# Altium footprint library SOIC-14(4.0X8.7).PcbLib: 1 footprints
Each footprint in its own frame and in the unit in brackets; x right, y up, seen from the top. Pads: shape width x height; smd on the part's side, far side on the other; paste and mask are expansions set on the pad; w line width, h text height; cw(c..) or ccw(c..) is an arc to the next point about the centre after c.
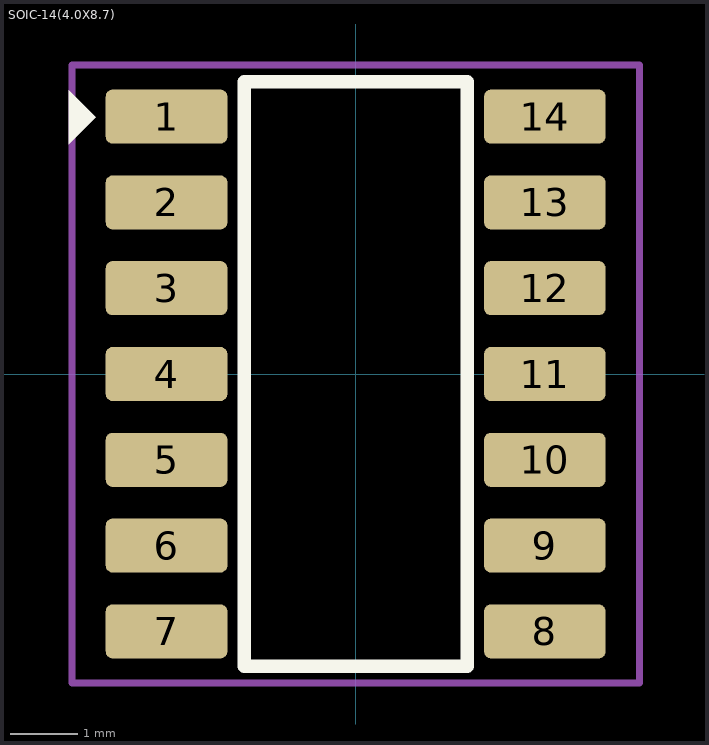
[diagram p0: the footprint, top view; thin cyan lines are the x and y axes]

## SOIC-14(4.0X8.7) [mm]
pads (14):
  rrect25% 1.8x0.8 smd: 1(-2.8,3.81) 2(-2.8,2.54) 3(-2.8,1.27) 4(-2.8,0) 5(-2.8,-1.27) 6(-2.8,-2.54) 7(-2.8,-3.81) 8(2.8,-3.81) 9(2.8,-2.54) 10(2.8,-1.27) 11(2.8,0) 12(2.8,1.27) 13(2.8,2.54) 14(2.8,3.81)
Top Overlay:
  region: -4.25,3.4 -4.25,4.2 -3.85,3.8
  lines w0.2: -1.65,-4.325 1.65,-4.325 1.65,4.325 -1.65,4.325 -1.65,-4.325
Top Courtyard:
  lines w0.1: -4.2,-4.575 4.2,-4.575 4.2,4.575 -4.2,4.575 -4.2,-4.575
3D body "SOT108-1.step": height 1.55, standoff -0.01, extent -3,-4.325 3,4.325